# Altium integrated library WP-RAFU.intlib: 10 symbols
Pins are listed as number, name and electrical type; pins without a type are passive.

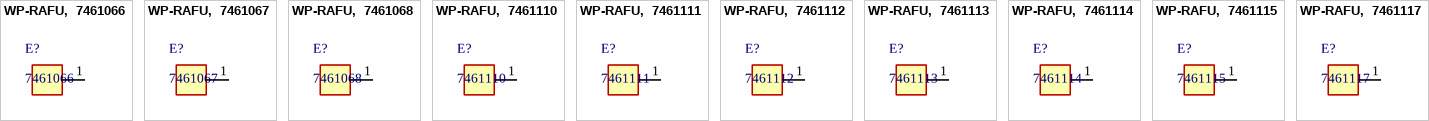
[diagram p0: symbols WP-RAFU,  7461066 to WP-RAFU,  7461117]

## WP-RAFU,  7461066
designator E?, comment 7461066
WP-RAFU 90° with Full Plain Pin Plate, M3, thr 4mm; Manufacturer: Wurth Elektronik; partNo: 7461066; ComponentLink1Description: Manufacturer; ComponentLink1URL: http://www.we-online.de; Created by: Baojun Chen; Created Date: Dec.2015; ComponentLink2Description: Datasheet; ComponentLink2URL: http://katalog.we-online.de/em/datasheet/7461066.pdf
footprint 7461066_Chemical Surface (M3, thr 4mm)
footprint 7461066_HAL Surface (M3, thr 4mm)
pins: 1

## WP-RAFU,  7461067
designator E?, comment 7461067
WP-RAFU 90° with Full Plain Pin Plate, Ø4.2mm, thrh 5mm; Manufacturer: Wurth Elektronik; partNo: 7461067; ComponentLink1Description: Manufacturer; ComponentLink1URL: http://www.we-online.de; Created by: Baojun Chen; Created Date: Dec.2015; ComponentLink2Description: Datasheet; ComponentLink2URL: http://katalog.we-online.de/em/datasheet/7461067.pdf
footprint 7461067_Chemical Surface (?4.2mm, thrh 5mm)
footprint 7461067_HAL Surface (?4.2mm, thrh 5mm)
pins: 1

## WP-RAFU,  7461068
designator E?, comment 7461068
WP-RAFU 90° with Full Plain Pin Plate, M8, thr 8mm; Manufacturer: Wurth Elektronik; partNo: 7461068; ComponentLink1Description: Manufacturer; ComponentLink1URL: http://www.we-online.de; Created by: Baojun Chen; Created Date: Dec.2015; ComponentLink2Description: Datasheet; ComponentLink2URL: http://katalog.we-online.de/em/datasheet/7461068.pdf
footprint 7461068_Chemical Surface (M8, thr 8mm)
footprint 7461068_HAL Surface (M8, thr 8mm)
pins: 1

## WP-RAFU,  7461110
designator E?, comment 7461110
WP-RAFU 90° with Full Plain Pin Plate, Ø3.2mm, thrh 4mm; Manufacturer: Wurth Elektronik; partNo: 7461110; ComponentLink1Description: Manufacturer; ComponentLink1URL: http://www.we-online.de; Created by: Baojun Chen; Created Date: Dec.2015; ComponentLink2Description: Datasheet; ComponentLink2URL: http://katalog.we-online.de/em/datasheet/7461110.pdf
footprint 7461110_Chemical Surface (?3.2mm, thrh 4mm)
footprint 7461110_HAL Surface (?3.2mm, thrh 4mm)
pins: 1

## WP-RAFU,  7461111
designator E?, comment 7461111
WP-RAFU 90° with Full Plain Pin Plate, M4, thr 5mm; Manufacturer: Wurth Elektronik; partNo: 7461111; ComponentLink1Description: Manufacturer; ComponentLink1URL: http://www.we-online.de; Created by: Baojun Chen; Created Date: Dec.2015; ComponentLink2Description: Datasheet; ComponentLink2URL: http://katalog.we-online.de/em/datasheet/7461111.pdf
footprint 7461111_Chemical Surface (M4, thr 5mm)
footprint 7461111_HAL Surface (M4, thr 5mm)
pins: 1

## WP-RAFU,  7461112
designator E?, comment 7461112
WP-RAFU 90° with Full Plain Pin Plate, M5, thr 5mm; Manufacturer: Wurth Elektronik; partNo: 7461112; ComponentLink1Description: Manufacturer; ComponentLink1URL: http://www.we-online.de; Created by: Baojun Chen; Created Date: Dec.2015; ComponentLink2Description: Datasheet; ComponentLink2URL: http://katalog.we-online.de/em/datasheet/7461112.pdf
footprint 7461112_Chemical Surface (M5, thr 5mm)
footprint 7461112_HAL Surface (M5, thr 5mm)
pins: 1

## WP-RAFU,  7461113
designator E?, comment 7461113
WP-RAFU 90° with Full Plain Pin Plate, Ø5.2mm, thrh 5mm; Manufacturer: Wurth Elektronik; partNo: 7461113; ComponentLink1Description: Manufacturer; ComponentLink1URL: http://www.we-online.de; Created by: Baojun Chen; Created Date: Dec.2015; ComponentLink2Description: Datasheet; ComponentLink2URL: http://katalog.we-online.de/em/datasheet/7461113.pdf
footprint 7461113_Chemical Surface (?5.2mm, thrh 5mm)
footprint 7461113_HAL Surface (?5.2mm, thrh 5mm)
pins: 1

## WP-RAFU,  7461114
designator E?, comment 7461114
WP-RAFU 90° with Full Plain Pin Plate, M6, thr 8mm; Manufacturer: Wurth Elektronik; partNo: 7461114; ComponentLink1Description: Manufacturer; ComponentLink1URL: http://www.we-online.de; Created by: Baojun Chen; Created Date: Dec.2015; ComponentLink2Description: Datasheet; ComponentLink2URL: http://katalog.we-online.de/em/datasheet/7461114.pdf
footprint 7461114_Chemical Surface (M6, thr 8mm)
footprint 7461114_HAL Surface (M6, thr 8mm)
pins: 1

## WP-RAFU,  7461115
designator E?, comment 7461115
WP-RAFU 90° with Full Plain Pin Plate, Ø6.2mm, thrh 8mm; Manufacturer: Wurth Elektronik; partNo: 7461115; ComponentLink1Description: Manufacturer; ComponentLink1URL: http://www.we-online.de; Created by: Baojun Chen; Created Date: Dec.2015; ComponentLink2Description: Datasheet; ComponentLink2URL: http://katalog.we-online.de/em/datasheet/7461115.pdf
footprint 7461115_Chemical Surface (?6.2mm, thrh 8mm)
footprint 7461115_HAL Surface (?6.2mm, thrh 8mm)
pins: 1

## WP-RAFU,  7461117
designator E?, comment 7461117
WP-RAFU 90° with Full Plain Pin Plate, M10, thr 10mm; Manufacturer: Wurth Elektronik; partNo: 7461117; ComponentLink1Description: Manufacturer; ComponentLink1URL: http://www.we-online.de; Created by: Baojun Chen; Created Date: Dec.2015; ComponentLink2Description: Datasheet; ComponentLink2URL: http://katalog.we-online.de/em/datasheet/7461117.pdf
footprint 7461117_Chemical Surface (M10, thr 10mm)
footprint 7461117_HAL Surface (M10, thr 10mm)
pins: 1